# EAGLE library part RN07 (library discrete)
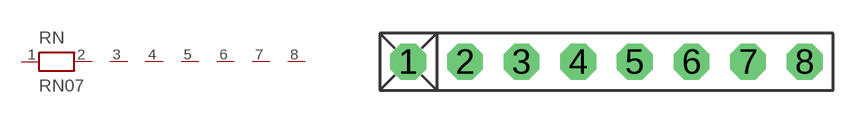
[diagram p2: symbol with the pads of RN-8; footprint RN-8]

Designator prefix RN

## RN07  [RN-8]
1  1  pas
2  2  pas
3  3  pas
4  4  pas
5  5  pas
6  6  pas
7  7  pas
8  8  pas

## Footprint RN-8 (pad centres in mm)
drill 0.813 pad 1.6 octagon: 1 -8.89,0; 2 -6.35,0; 3 -3.81,0; 4 -1.27,0; 5 1.27,0; 6 3.81,0; 7 6.35,0; 8 8.89,0